# EAGLE library part NANO-HEADER-SURROUND (library dirtcheaprx)
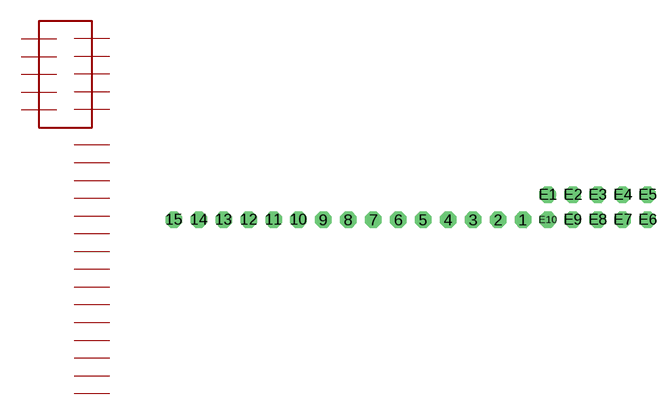
[diagram p2: symbol with the pads of NANO-HEADER-SURROUND; footprint NANO-HEADER-SURROUND]

Designator prefix X

## NANO-HEADER-SURROUND  [NANO-HEADER-SURROUND]
1  1
2  2
3  3
4  4
5  5
6  6
7  7
8  8
9  9
10  10
11  11
12  12
13  13
14  14
15  15
E1  E1
E2  E2
E3  E3
E4  E4
E5  E5
E6  E6
E7  E7
E8  E8
E9  E9
E10  E10

## Footprint NANO-HEADER-SURROUND (pad centres in mm)
drill 0.9 pad 1.676 octagon: 1 -2.54,-2.54; 2 -5.08,-2.54; 3 -7.62,-2.54; 4 -10.16,-2.54; 5 -12.7,-2.54; 6 -15.24,-2.54; 7 -17.78,-2.54; 8 -20.32,-2.54; 9 -22.86,-2.54; 10 -25.4,-2.54; 11 -27.94,-2.54; 12 -30.48,-2.54; 13 -33.02,-2.54; 14 -35.56,-2.54; 15 -38.1,-2.54; E1 0,0; E2 2.54,0; E3 5.08,0; E4 7.62,0; E5 10.16,0; E6 10.16,-2.54; E7 7.62,-2.54; E8 5.08,-2.54; E9 2.54,-2.54; E10 0,-2.54